# Altium footprint library 排针-排母.PcbLib: 118 footprints (part 6 of 8)
Each footprint in its own frame and in the unit in brackets; x right, y up, seen from the top. Pads: shape width x height; smd on the part's side, far side on the other; paste and mask are expansions set on the pad; w line width, h text height; cw(c..) or ccw(c..) is an arc to the next point about the centre after c.
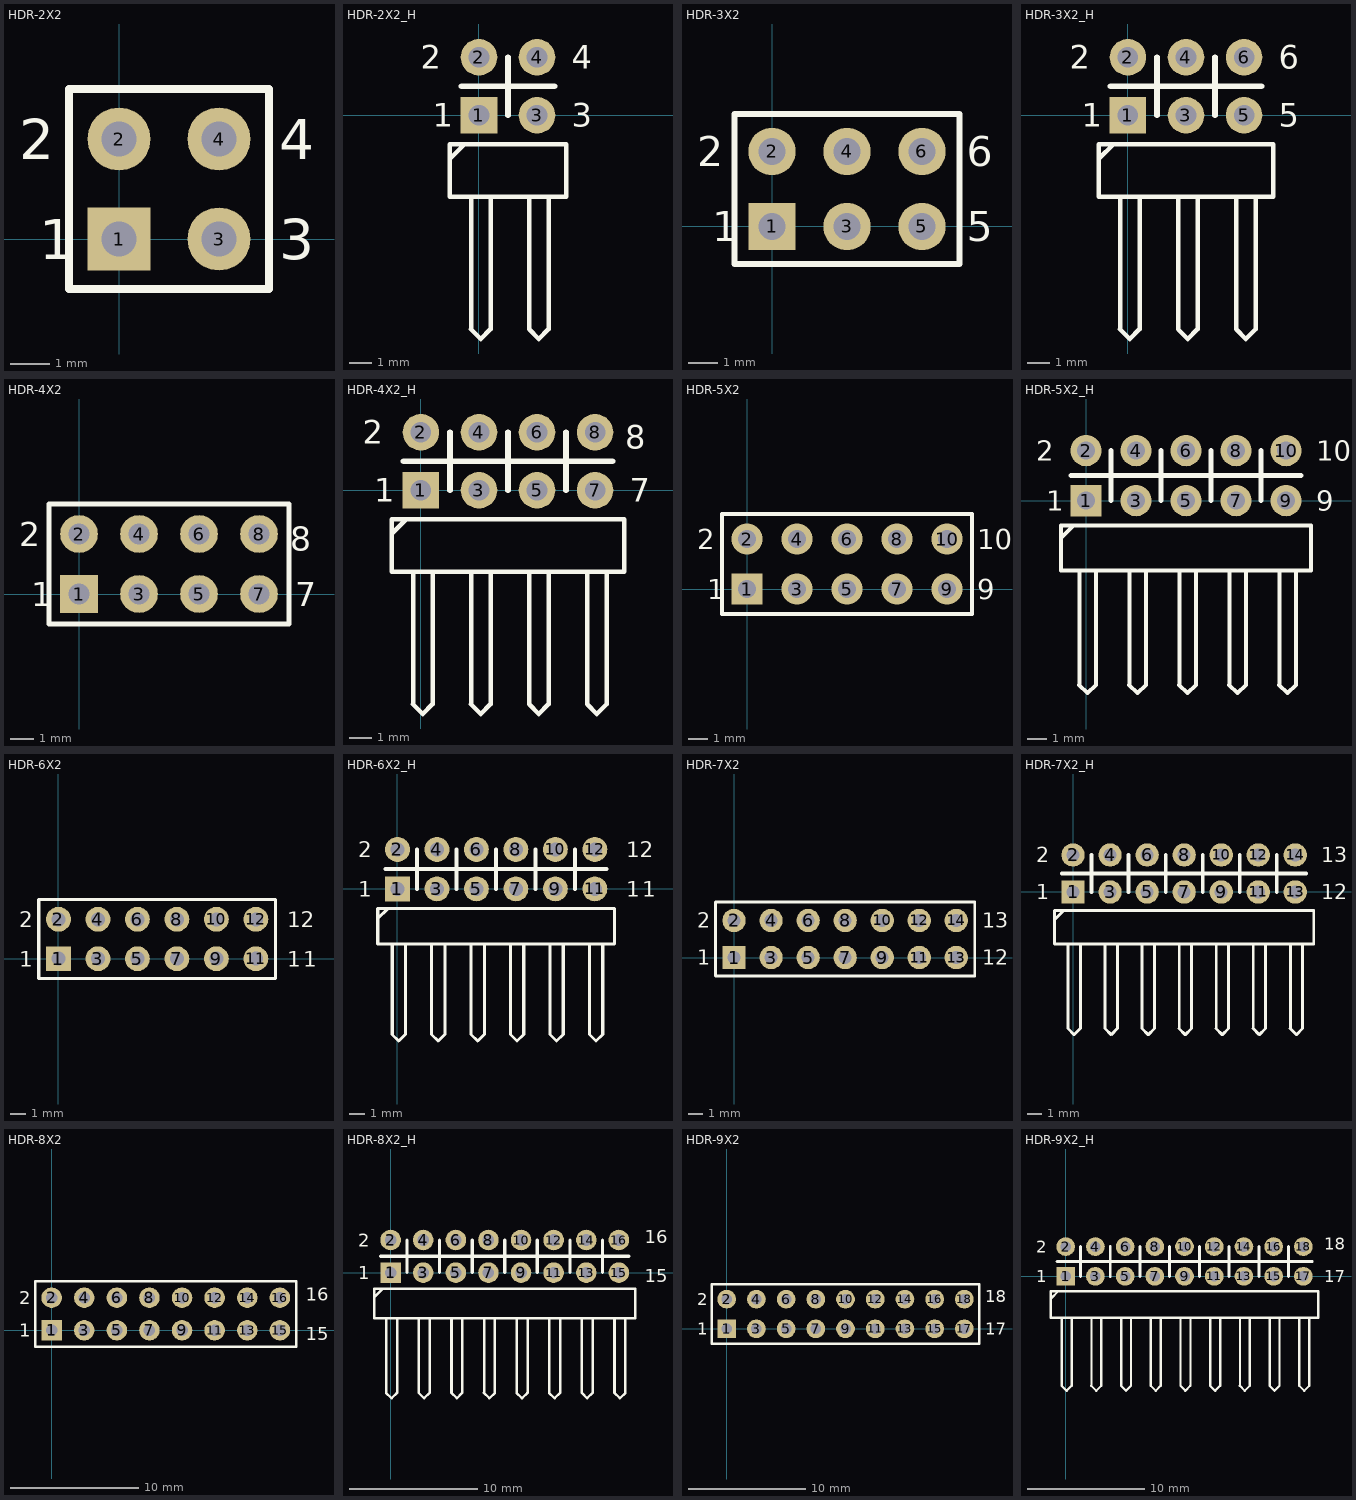
[diagram p5: the footprints below, top view; thin cyan lines are the x and y axes]

## HDR-2X2 [mm] "双排排针，2x2脚"
pads (4):
  rect 1.6x1.6 hole 0.9: 1(0,0)
  round 1.6 hole 0.9: 2(0,2.54) 3(2.54,0) 4(2.54,2.54)
Top Overlay:
  lines w0.2: -1.27,-1.27 3.81,-1.27 3.81,3.81 -1.27,3.81 -1.27,-1.27
  text "3" at 4.064,-0.508 h1.02
  text "4" at 4.064,2.032 h1.02
  text "2" at -2.54,2.032 h1.02
  text "1" at -2.032,-0.508 h1.02
3D body: height 8.5, standoff -3, extent 1.27,-1.27 3.81,3.81
3D body: height 8.5, standoff -3, extent -1.27,-1.27 1.27,3.81

## HDR-2X2_H [mm] "双排弯脚排针，2x2脚"
pads (4):
  rect 1.6x1.6 hole 0.9: 1(0,0)
  round 1.6 hole 0.9: 2(0,2.54) 3(2.54,0) 4(2.54,2.54)
Top Overlay:
  lines w0.2: -1.27,-1.905 -0.635,-1.27 ; -0.348,-9.364 0.075,-9.787 0.499,-9.364 0.508,-9.355 0.508,-3.556 ; -0.339,-9.364 -0.339,-3.556 ; 2.192,-9.364 2.615,-9.787 3.039,-9.364 ; 2.201,-9.364 2.201,-3.556 ; 3.048,-9.364 3.048,-3.556 ; -1.27,-3.556 3.81,-3.556 3.81,-1.27 -1.27,-1.27 -1.27,-3.556
  lines w0.254: -0.762,1.27 3.302,1.27 ; 1.27,0 1.27,2.54
  text "1" at -2.032,-0.508 h1.02
  text "2" at -2.54,2.032 h1.02
  text "4" at 4.064,2.032 h1.02
  text "3" at 4.064,-0.508 h1.02
Bottom Overlay:
  lines w0.254: -0.762,1.27 3.302,1.27 ; 1.27,0 1.27,2.54
3D body: height 5.1, standoff -3, extent 1.27,-9.96 3.81,2.89
3D body: height 5.1, standoff -3, extent -1.27,-9.96 1.27,2.89

## HDR-3X2 [mm] "双排排针，3x2脚"
pads (6):
  rect 1.6x1.6 hole 0.9: 1(0,0)
  round 1.6 hole 0.9: 2(0,2.54) 3(2.54,0) 4(2.54,2.54) 5(5.08,0) 6(5.08,2.54)
Top Overlay:
  lines w0.2: 1.482,-1.27 6.35,-1.27 ; 6.35,-1.27 -1.27,-1.27 -1.27,3.81 6.35,3.81 6.35,-1.27
  text "1" at -2.032,-0.508 h1.02
  text "2" at -2.54,2.032 h1.02
  text "5" at 6.604,-0.508 h1.02
  text "6" at 6.604,2.032 h1.02
3D body: height 8.5, standoff -3, extent 1.27,-1.27 3.81,3.81
3D body: height 8.5, standoff -3, extent -1.27,-1.27 1.27,3.81
3D body: height 8.5, standoff -3, extent 3.81,-1.27 6.35,3.81

## HDR-3X2_H [mm] "双排弯脚排针，3x2脚"
pads (6):
  rect 1.6x1.6 hole 0.9: 1(0,0)
  round 1.6 hole 0.9: 2(0,2.54) 3(2.54,0) 4(2.54,2.54) 5(5.08,0) 6(5.08,2.54)
Top Overlay:
  lines w0.2: -1.27,-1.905 -0.635,-1.27 ; -0.348,-9.364 0.075,-9.787 0.499,-9.364 0.508,-9.355 0.508,-3.556 ; -0.339,-9.364 -0.339,-3.556 ; 2.192,-9.364 2.615,-9.787 3.039,-9.364 ; 2.201,-9.364 2.201,-3.556 ; 3.048,-9.364 3.048,-3.556 ; 4.732,-9.364 5.155,-9.787 5.579,-9.364 ; 4.741,-9.364 4.741,-3.556 ; 5.588,-9.364 5.588,-3.556 ; -1.27,-3.556 -1.27,-1.27 6.35,-1.27 6.35,-3.556 -1.27,-3.556
  lines w0.254: -0.762,1.27 5.842,1.27 ; 1.27,0 1.27,2.54 ; 3.81,0 3.81,2.54
  text "1" at -2.032,-0.508 h1.02
  text "2" at -2.54,2.032 h1.02
  text "5" at 6.604,-0.508 h1.02
  text "6" at 6.604,2.032 h1.02
Bottom Overlay:
  lines w0.254: -0.762,1.27 5.842,1.27 ; 1.27,0 1.27,2.54 ; 3.81,0 3.81,2.54
3D body: height 5.1, standoff -3, extent 3.81,-9.96 6.35,2.89
3D body: height 5.1, standoff -3, extent -1.27,-9.96 1.27,2.89
3D body: height 5.1, standoff -3, extent 1.27,-9.96 3.81,2.89

## HDR-4X2 [mm] "双排排针，4x2脚"
pads (8):
  rect 1.6x1.6 hole 0.9: 1(0,0)
  round 1.6 hole 0.9: 2(0,2.54) 3(2.54,0) 4(2.54,2.54) 5(5.08,0) 6(5.08,2.54) 7(7.62,0) 8(7.62,2.54)
Top Overlay:
  lines w0.2: 1.482,-1.27 8.89,-1.27 8.89,3.81 -1.27,3.81 -1.27,-1.27 6.35,-1.27
  text "7" at 9.144,-0.508 h1.02
  text "8" at 8.941,1.829 h1.02
  text "2" at -2.54,2.032 h1.02
  text "1" at -2.032,-0.508 h1.02
3D body: height 8.5, standoff -3, extent 3.81,-1.27 6.35,3.81
3D body: height 8.5, standoff -3, extent 6.35,-1.27 8.89,3.81
3D body: height 8.5, standoff -3, extent -1.27,-1.27 1.27,3.81
3D body: height 8.5, standoff -3, extent 1.27,-1.27 3.81,3.81

## HDR-4X2_H [mm] "双排弯脚排针，4x2脚"
pads (8):
  rect 1.6x1.6 hole 0.9: 1(0,0)
  round 1.6 hole 0.9: 2(0,2.54) 3(2.54,0) 4(2.54,2.54) 5(5.08,0) 6(5.08,2.54) 7(7.62,0) 8(7.62,2.54)
Top Overlay:
  lines w0.2: -1.27,-1.905 -0.635,-1.27 ; -0.348,-9.364 0.075,-9.787 0.499,-9.364 0.508,-9.355 0.508,-3.556 ; -0.339,-9.364 -0.339,-3.556 ; 2.192,-9.364 2.615,-9.787 3.039,-9.364 ; 2.201,-9.364 2.201,-3.556 ; 3.048,-9.364 3.048,-3.556 ; 4.732,-9.364 5.155,-9.787 5.579,-9.364 ; 4.741,-9.364 4.741,-3.556 ; 5.588,-9.364 5.588,-3.556 ; 7.272,-9.364 7.695,-9.787 8.119,-9.364 ; 7.281,-9.364 7.281,-3.556 ; 8.128,-9.364 8.128,-3.556 ; -1.27,-3.556 8.89,-3.556 8.89,-1.27 -1.27,-1.27 -1.27,-3.556
  lines w0.254: -0.762,1.27 8.382,1.27 ; 1.27,0 1.27,2.54 ; 3.81,0 3.81,2.54 ; 6.35,0 6.35,2.54
  text "7" at 9.144,-0.508 h1.02
  text "8" at 8.941,1.829 h1.02
  text "2" at -2.54,2.032 h1.02
  text "1" at -2.032,-0.508 h1.02
Bottom Overlay:
  lines w0.254: -0.762,1.27 8.382,1.27 ; 1.27,0 1.27,2.54 ; 3.81,0 3.81,2.54 ; 6.35,0 6.35,2.54
3D body: height 5.1, standoff -3, extent 3.81,-9.96 6.35,2.89
3D body: height 5.1, standoff -3, extent 6.35,-9.96 8.89,2.89
3D body: height 5.1, standoff -3, extent -1.27,-9.96 1.27,2.89
3D body: height 5.1, standoff -3, extent 1.27,-9.96 3.81,2.89

## HDR-5X2 [mm] "双排排针，5x2脚"
pads (10):
  rect 1.6x1.6 hole 0.9: 1(0,0)
  round 1.6 hole 0.9: 2(0,2.54) 3(2.54,0) 4(2.54,2.54) 5(5.08,0) 6(5.08,2.54) 7(7.62,0) 8(7.62,2.54) 9(10.16,0) 10(10.16,2.54)
Top Overlay:
  lines w0.2: -1.27,-1.27 11.43,-1.27 11.43,3.81 -1.27,3.81 -1.27,-1.27
  text "10" at 11.684,2.032 h1.02
  text "9" at 11.684,-0.508 h1.02
  text "1" at -2.032,-0.508 h1.02
  text "2" at -2.54,2.032 h1.02
3D body: height 8.5, standoff -3, extent 8.89,-1.27 11.43,3.81
3D body: height 8.5, standoff -3, extent 1.27,-1.27 3.81,3.81
3D body: height 8.5, standoff -3, extent -1.27,-1.27 1.27,3.81
3D body: height 8.5, standoff -3, extent 6.35,-1.27 8.89,3.81
3D body: height 8.5, standoff -3, extent 3.81,-1.27 6.35,3.81

## HDR-5X2_H [mm] "双排弯脚排针，5x2脚"
pads (10):
  rect 1.6x1.6 hole 0.9: 1(0,0)
  round 1.6 hole 0.9: 2(0,2.54) 3(2.54,0) 4(2.54,2.54) 5(5.08,0) 6(5.08,2.54) 7(7.62,0) 8(7.62,2.54) 9(10.16,0) 10(10.16,2.54)
Top Overlay:
  lines w0.2: -1.27,-1.905 -0.635,-1.27 ; -0.348,-9.364 0.075,-9.787 0.499,-9.364 0.508,-9.355 0.508,-3.556 ; -0.339,-9.364 -0.339,-3.556 ; 2.192,-9.364 2.615,-9.787 3.039,-9.364 ; 2.201,-9.364 2.201,-3.556 ; 3.048,-9.364 3.048,-3.556 ; 4.732,-9.364 5.155,-9.787 5.579,-9.364 ; 4.741,-9.364 4.741,-3.556 ; 5.588,-9.364 5.588,-3.556 ; 7.272,-9.364 7.695,-9.787 8.119,-9.364 ; 7.281,-9.364 7.281,-3.556 ; 8.128,-9.364 8.128,-3.556 ; 9.812,-9.364 10.235,-9.787 10.659,-9.364 ; 9.821,-9.364 9.821,-3.556 ; 10.668,-9.364 10.668,-3.556 ; -1.27,-3.556 11.43,-3.556 11.43,-1.27 -1.27,-1.27 -1.27,-3.556
  lines w0.254: -0.762,1.27 10.922,1.27 ; 1.27,0 1.27,2.54 ; 3.81,0 3.81,2.54 ; 6.35,0 6.35,2.54 ; 8.89,0 8.89,2.54
  text "2" at -2.54,2.032 h1.02
  text "1" at -2.032,-0.508 h1.02
  text "9" at 11.684,-0.508 h1.02
  text "10" at 11.684,2.032 h1.02
Bottom Overlay:
  lines w0.254: -0.762,1.27 10.922,1.27 ; 1.27,0 1.27,2.54 ; 3.81,0 3.81,2.54 ; 6.35,0 6.35,2.54 ; 8.89,0 8.89,2.54
3D body: height 5.1, standoff -3, extent 8.89,-9.96 11.43,2.89
3D body: height 5.1, standoff -3, extent 3.81,-9.96 6.35,2.89
3D body: height 5.1, standoff -3, extent 6.35,-9.96 8.89,2.89
3D body: height 5.1, standoff -3, extent -1.27,-9.96 1.27,2.89
3D body: height 5.1, standoff -3, extent 1.27,-9.96 3.81,2.89

## HDR-6X2 [mm] "双排排针，6x2脚"
pads (12):
  rect 1.6x1.6 hole 0.9: 1(0,0)
  round 1.6 hole 0.9: 2(0,2.54) 3(2.54,0) 4(2.54,2.54) 5(5.08,0) 6(5.08,2.54) 7(7.62,0) 8(7.62,2.54) 9(10.16,0) 10(10.16,2.54) 11(12.7,0) 12(12.7,2.54)
Top Overlay:
  lines w0.2: -1.27,-1.27 13.97,-1.27 13.97,3.81 -1.27,3.81 -1.27,-1.27
  text "12" at 14.732,2.032 h1.02
  text "1" at 15.748,-0.508 h1.02
  text "1" at 14.732,-0.508 h1.02
  text "1" at -2.54,-0.508 h1.02
  text "2" at -2.54,2.032 h1.02
3D body: height 8.5, standoff -3, extent 8.89,-1.27 11.43,3.81
3D body: height 8.5, standoff -3, extent 1.27,-1.27 3.81,3.81
3D body: height 8.5, standoff -3, extent -1.27,-1.27 1.27,3.81
3D body: height 8.5, standoff -3, extent 6.35,-1.27 8.89,3.81
3D body: height 8.5, standoff -3, extent 3.81,-1.27 6.35,3.81
3D body: height 8.5, standoff -3, extent 11.43,-1.27 13.97,3.81

## HDR-6X2_H [mm] "双排弯脚排针，6x2脚"
pads (12):
  rect 1.6x1.6 hole 0.9: 1(0,0)
  round 1.6 hole 0.9: 2(0,2.54) 3(2.54,0) 4(2.54,2.54) 5(5.08,0) 6(5.08,2.54) 7(7.62,0) 8(7.62,2.54) 9(10.16,0) 10(10.16,2.54) 11(12.7,0) 12(12.7,2.54)
Top Overlay:
  lines w0.2: -1.27,-1.905 -0.635,-1.27 ; -0.348,-9.364 0.075,-9.787 0.499,-9.364 0.508,-9.355 0.508,-3.556 ; -0.339,-9.364 -0.339,-3.556 ; 2.192,-9.364 2.615,-9.787 3.039,-9.364 ; 2.201,-9.364 2.201,-3.556 ; 3.048,-9.364 3.048,-3.556 ; 4.732,-9.364 5.155,-9.787 5.579,-9.364 ; 4.741,-9.364 4.741,-3.556 ; 5.588,-9.364 5.588,-3.556 ; 7.272,-9.364 7.695,-9.787 8.119,-9.364 ; 7.281,-9.364 7.281,-3.556 ; 8.128,-9.364 8.128,-3.556 ; 9.812,-9.364 10.235,-9.787 10.659,-9.364 ; 9.821,-9.364 9.821,-3.556 ; 10.668,-9.364 10.668,-3.556 ; 12.352,-9.364 12.775,-9.787 13.199,-9.364 ; 12.361,-9.364 12.361,-3.556 ; 13.208,-9.364 13.208,-3.556 ; -1.27,-3.556 13.97,-3.556 13.97,-1.27 -1.27,-1.27 -1.27,-3.556
  lines w0.254: -0.762,1.27 13.462,1.27 ; 1.27,0 1.27,2.54 ; 3.81,0 3.81,2.54 ; 6.35,0 6.35,2.54 ; 8.89,0 8.89,2.54 ; 11.43,0 11.43,2.54
  text "12" at 14.732,2.032 h1.02
  text "1" at 15.748,-0.508 h1.02
  text "1" at 14.732,-0.508 h1.02
  text "1" at -2.54,-0.508 h1.02
  text "2" at -2.54,2.032 h1.02
Bottom Overlay:
  lines w0.254: -0.762,1.27 13.462,1.27 ; 1.27,0 1.27,2.54 ; 3.81,0 3.81,2.54 ; 6.35,0 6.35,2.54 ; 8.89,0 8.89,2.54 ; 11.43,0 11.43,2.54
3D body: height 5.1, standoff -3, extent 8.89,-9.96 11.43,2.89
3D body: height 5.1, standoff -3, extent 3.81,-9.96 6.35,2.89
3D body: height 5.1, standoff -3, extent 6.35,-9.96 8.89,2.89
3D body: height 5.1, standoff -3, extent -1.27,-9.96 1.27,2.89
3D body: height 5.1, standoff -3, extent 1.27,-9.96 3.81,2.89
3D body: height 5.1, standoff -3, extent 11.43,-9.96 13.97,2.89

## HDR-7X2 [mm] "双排排针，7x2脚"
pads (14):
  rect 1.6x1.6 hole 0.9: 1(0,0)
  round 1.6 hole 0.9: 2(0,2.54) 3(2.54,0) 4(2.54,2.54) 5(5.08,0) 6(5.08,2.54) 7(7.62,0) 8(7.62,2.54) 9(10.16,0) 10(10.16,2.54) 11(12.7,0) 12(12.7,2.54) 13(15.24,0) 14(15.24,2.54)
Top Overlay:
  lines w0.2: -1.27,-1.27 16.51,-1.27 16.51,3.81 -1.27,3.81 -1.27,-1.27
  text "12" at 17.018,-0.508 h1.02
  text "13" at 17.018,2.032 h1.02
  text "1" at -2.54,-0.508 h1.02
  text "2" at -2.54,2.032 h1.02
3D body: height 8.5, standoff -3, extent 8.89,-1.27 11.43,3.81
3D body: height 8.5, standoff -3, extent 1.27,-1.27 3.81,3.81
3D body: height 8.5, standoff -3, extent -1.27,-1.27 1.27,3.81
3D body: height 8.5, standoff -3, extent 6.35,-1.27 8.89,3.81
3D body: height 8.5, standoff -3, extent 3.81,-1.27 6.35,3.81
3D body: height 8.5, standoff -3, extent 13.97,-1.27 16.51,3.81
3D body: height 8.5, standoff -3, extent 11.43,-1.27 13.97,3.81

## HDR-7X2_H [mm] "双排弯脚排针，7x2脚"
pads (14):
  rect 1.6x1.6 hole 0.9: 1(0,0)
  round 1.6 hole 0.9: 2(0,2.54) 3(2.54,0) 4(2.54,2.54) 5(5.08,0) 6(5.08,2.54) 7(7.62,0) 8(7.62,2.54) 9(10.16,0) 10(10.16,2.54) 11(12.7,0) 12(12.7,2.54) 13(15.24,0) 14(15.24,2.54)
Top Overlay:
  lines w0.2: -1.27,-1.905 -0.635,-1.27 ; -0.348,-9.364 0.075,-9.787 0.499,-9.364 0.508,-9.355 0.508,-3.556 ; -0.339,-9.364 -0.339,-3.556 ; 2.192,-9.364 2.615,-9.787 3.039,-9.364 ; 2.201,-9.364 2.201,-3.556 ; 3.048,-9.364 3.048,-3.556 ; 4.732,-9.364 5.155,-9.787 5.579,-9.364 ; 4.741,-9.364 4.741,-3.556 ; 5.588,-9.364 5.588,-3.556 ; 7.272,-9.364 7.695,-9.787 8.119,-9.364 ; 7.281,-9.364 7.281,-3.556 ; 8.128,-9.364 8.128,-3.556 ; 9.812,-9.364 10.235,-9.787 10.659,-9.364 ; 9.821,-9.364 9.821,-3.556 ; 10.668,-9.364 10.668,-3.556 ; 12.352,-9.364 12.775,-9.787 13.199,-9.364 ; 12.361,-9.364 12.361,-3.556 ; 13.208,-9.364 13.208,-3.556 ; 14.892,-9.364 15.315,-9.787 15.739,-9.364 ; 14.901,-9.364 14.901,-3.556 ; 15.748,-9.364 15.748,-3.556 ; -1.27,-3.556 16.51,-3.556 16.51,-1.27 -1.27,-1.27 -1.27,-3.556
  lines w0.254: -0.762,1.27 16.002,1.27 ; 1.27,0 1.27,2.54 ; 3.81,0 3.81,2.54 ; 6.35,0 6.35,2.54 ; 8.89,0 8.89,2.54 ; 11.43,0 11.43,2.54 ; 13.97,0 13.97,2.54
  text "12" at 17.018,-0.508 h1.02
  text "13" at 17.018,2.032 h1.02
  text "1" at -2.54,-0.508 h1.02
  text "2" at -2.54,2.032 h1.02
Bottom Overlay:
  lines w0.254: -0.762,1.27 16.002,1.27 ; 1.27,0 1.27,2.54 ; 3.81,0 3.81,2.54 ; 6.35,0 6.35,2.54 ; 8.89,0 8.89,2.54 ; 11.43,0 11.43,2.54 ; 13.97,0 13.97,2.54
3D body: height 5.1, standoff -3, extent 8.89,-9.96 11.43,2.89
3D body: height 5.1, standoff -3, extent 3.81,-9.96 6.35,2.89
3D body: height 5.1, standoff -3, extent 6.35,-9.96 8.89,2.89
3D body: height 5.1, standoff -3, extent -1.27,-9.96 1.27,2.89
3D body: height 5.1, standoff -3, extent 1.27,-9.96 3.81,2.89
3D body: height 5.1, standoff -3, extent 11.43,-9.96 13.97,2.89
3D body: height 5.1, standoff -3, extent 13.97,-9.96 16.51,2.89

## HDR-8X2 [mm] "双排排针，8x2脚"
pads (16):
  rect 1.6x1.6 hole 0.9: 1(0,0)
  round 1.6 hole 0.9: 2(0,2.54) 3(2.54,0) 4(2.54,2.54) 5(5.08,0) 6(5.08,2.54) 7(7.62,0) 8(7.62,2.54) 9(10.16,0) 10(10.16,2.54) 11(12.7,0) 12(12.7,2.54) 13(15.24,0) 14(15.24,2.54) 15(17.78,0) 16(17.78,2.54)
Top Overlay:
  lines w0.2: -1.27,-1.27 -1.27,3.81 19.05,3.81 19.05,-1.27 -1.27,-1.27
  text "2" at -2.54,2.032 h1.02
  text "1" at -2.54,-0.508 h1.02
  text "16" at 19.812,2.286 h1.02
  text "15" at 19.812,-0.762 h1.02
3D body: height 8.5, standoff -3, extent 8.89,-1.27 11.43,3.81
3D body: height 8.5, standoff -3, extent 1.27,-1.27 3.81,3.81
3D body: height 8.5, standoff -3, extent -1.27,-1.27 1.27,3.81
3D body: height 8.5, standoff -3, extent 6.35,-1.27 8.89,3.81
3D body: height 8.5, standoff -3, extent 3.81,-1.27 6.35,3.81
3D body: height 8.5, standoff -3, extent 13.97,-1.27 16.51,3.81
3D body: height 8.5, standoff -3, extent 11.43,-1.27 13.97,3.81
3D body: height 8.5, standoff -3, extent 16.51,-1.27 19.05,3.81

## HDR-8X2_H [mm] "双排弯脚排针，8x2脚"
pads (16):
  rect 1.6x1.6 hole 0.9: 1(0,0)
  round 1.6 hole 0.9: 2(0,2.54) 3(2.54,0) 4(2.54,2.54) 5(5.08,0) 6(5.08,2.54) 7(7.62,0) 8(7.62,2.54) 9(10.16,0) 10(10.16,2.54) 11(12.7,0) 12(12.7,2.54) 13(15.24,0) 14(15.24,2.54) 15(17.78,0) 16(17.78,2.54)
Top Overlay:
  lines w0.2: -1.27,-1.905 -0.635,-1.27 ; -0.348,-9.364 0.075,-9.787 0.499,-9.364 0.508,-9.355 0.508,-3.556 ; -0.339,-9.364 -0.339,-3.556 ; 2.192,-9.364 2.615,-9.787 3.039,-9.364 ; 2.201,-9.364 2.201,-3.556 ; 3.048,-9.364 3.048,-3.556 ; 4.732,-9.364 5.155,-9.787 5.579,-9.364 ; 4.741,-9.364 4.741,-3.556 ; 5.588,-9.364 5.588,-3.556 ; 7.272,-9.364 7.695,-9.787 8.119,-9.364 ; 7.281,-9.364 7.281,-3.556 ; 8.128,-9.364 8.128,-3.556 ; 9.812,-9.364 10.235,-9.787 10.659,-9.364 ; 9.821,-9.364 9.821,-3.556 ; 10.668,-9.364 10.668,-3.556 ; 12.352,-9.364 12.775,-9.787 13.199,-9.364 ; 12.361,-9.364 12.361,-3.556 ; 13.208,-9.364 13.208,-3.556 ; 14.892,-9.364 15.315,-9.787 15.739,-9.364 ; 14.901,-9.364 14.901,-3.556 ; 15.748,-9.364 15.748,-3.556 ; 17.432,-9.364 17.855,-9.787 18.279,-9.364 ; 17.441,-9.364 17.441,-3.556 ; 18.288,-9.364 18.288,-3.556 ; -1.27,-3.556 -1.27,-1.27 19.05,-1.27 19.05,-3.556 -1.27,-3.556
  lines w0.254: -0.762,1.27 18.542,1.27 ; 1.27,0 1.27,2.54 ; 3.81,0 3.81,2.54 ; 6.35,0 6.35,2.54 ; 8.89,0 8.89,2.54 ; 11.43,0 11.43,2.54 ; 13.97,0 13.97,2.54 ; 16.51,0 16.51,2.54
  text "2" at -2.54,2.032 h1.02
  text "1" at -2.54,-0.508 h1.02
  text "16" at 19.812,2.286 h1.02
  text "15" at 19.812,-0.762 h1.02
Bottom Overlay:
  lines w0.254: -0.762,1.27 18.542,1.27 ; 1.27,0 1.27,2.54 ; 3.81,0 3.81,2.54 ; 6.35,0 6.35,2.54 ; 8.89,0 8.89,2.54 ; 11.43,0 11.43,2.54 ; 13.97,0 13.97,2.54 ; 16.51,0 16.51,2.54
3D body: height 5.1, standoff -3, extent 13.97,-9.96 16.51,2.89
3D body: height 5.1, standoff -3, extent 11.43,-9.96 13.97,2.89
3D body: height 5.1, standoff -3, extent 16.51,-9.96 19.05,2.89
3D body: height 5.1, standoff -3, extent 1.27,-9.96 3.81,2.89
3D body: height 5.1, standoff -3, extent -1.27,-9.96 1.27,2.89
3D body: height 5.1, standoff -3, extent 6.35,-9.96 8.89,2.89
3D body: height 5.1, standoff -3, extent 3.81,-9.96 6.35,2.89
3D body: height 5.1, standoff -3, extent 8.89,-9.96 11.43,2.89

## HDR-9X2 [mm] "双排排针，9x2脚"
pads (18):
  rect 1.6x1.6 hole 0.9: 1(0,0)
  round 1.6 hole 0.9: 2(0,2.54) 3(2.54,0) 4(2.54,2.54) 5(5.08,0) 6(5.08,2.54) 7(7.62,0) 8(7.62,2.54) 9(10.16,0) 10(10.16,2.54) 11(12.7,0) 12(12.7,2.54) 13(15.24,0) 14(15.24,2.54) 15(17.78,0) 16(17.78,2.54) 17(20.32,0) 18(20.32,2.54)
Top Overlay:
  lines w0.2: -1.27,-1.27 21.59,-1.27 21.59,3.81 -1.27,3.81 -1.27,-1.27
  text "17" at 22.098,-0.508 h1.02
  text "18" at 22.098,2.286 h1.02
  text "1" at -2.54,-0.508 h1.02
  text "2" at -2.54,2.032 h1.02
3D body: height 8.5, standoff -3, extent 16.51,-1.27 19.05,3.81
3D body: height 8.5, standoff -3, extent 19.05,-1.27 21.59,3.81
3D body: height 8.5, standoff -3, extent 11.43,-1.27 13.97,3.81
3D body: height 8.5, standoff -3, extent 13.97,-1.27 16.51,3.81
3D body: height 8.5, standoff -3, extent 3.81,-1.27 6.35,3.81
3D body: height 8.5, standoff -3, extent 6.35,-1.27 8.89,3.81
3D body: height 8.5, standoff -3, extent -1.27,-1.27 1.27,3.81
3D body: height 8.5, standoff -3, extent 1.27,-1.27 3.81,3.81
3D body: height 8.5, standoff -3, extent 8.89,-1.27 11.43,3.81

## HDR-9X2_H [mm] "双排弯脚排针，9x2脚"
pads (18):
  rect 1.6x1.6 hole 0.9: 1(0,0)
  round 1.6 hole 0.9: 2(0,2.54) 3(2.54,0) 4(2.54,2.54) 5(5.08,0) 6(5.08,2.54) 7(7.62,0) 8(7.62,2.54) 9(10.16,0) 10(10.16,2.54) 11(12.7,0) 12(12.7,2.54) 13(15.24,0) 14(15.24,2.54) 15(17.78,0) 16(17.78,2.54) 17(20.32,0) 18(20.32,2.54)
Top Overlay:
  lines w0.2: -1.27,-1.905 -0.635,-1.27 ; -0.348,-9.364 0.075,-9.787 0.499,-9.364 0.508,-9.355 0.508,-3.556 ; -0.339,-9.364 -0.339,-3.556 ; 2.192,-9.364 2.615,-9.787 3.039,-9.364 ; 2.201,-9.364 2.201,-3.556 ; 3.048,-9.364 3.048,-3.556 ; 4.732,-9.364 5.155,-9.787 5.579,-9.364 ; 4.741,-9.364 4.741,-3.556 ; 5.588,-9.364 5.588,-3.556 ; 7.272,-9.364 7.695,-9.787 8.119,-9.364 ; 7.281,-9.364 7.281,-3.556 ; 8.128,-9.364 8.128,-3.556 ; 9.812,-9.364 10.235,-9.787 10.659,-9.364 ; 9.821,-9.364 9.821,-3.556 ; 10.668,-9.364 10.668,-3.556 ; 12.352,-9.364 12.775,-9.787 13.199,-9.364 ; 12.361,-9.364 12.361,-3.556 ; 13.208,-9.364 13.208,-3.556 ; 14.892,-9.364 15.315,-9.787 15.739,-9.364 ; 14.901,-9.364 14.901,-3.556 ; 15.748,-9.364 15.748,-3.556 ; 17.432,-9.364 17.855,-9.787 18.279,-9.364 ; 17.441,-9.364 17.441,-3.556 ; 18.288,-9.364 18.288,-3.556 ; 19.972,-9.364 20.395,-9.787 20.819,-9.364 ; 19.981,-9.364 19.981,-3.556 ; 20.828,-9.364 20.828,-3.556 ; -1.27,-3.556 -1.27,-1.27 21.59,-1.27 21.59,-3.556 -1.27,-3.556
  lines w0.254: -0.762,1.27 21.082,1.27 ; 1.27,0 1.27,2.54 ; 3.81,0 3.81,2.54 ; 6.35,0 6.35,2.54 ; 8.89,0 8.89,2.54 ; 11.43,0 11.43,2.54 ; 13.97,0 13.97,2.54 ; 16.51,0 16.51,2.54 ; 19.05,0 19.05,2.54
  text "2" at -2.54,2.032 h1.02
  text "1" at -2.54,-0.508 h1.02
  text "18" at 22.098,2.286 h1.02
  text "17" at 22.098,-0.508 h1.02
Bottom Overlay:
  lines w0.254: -0.762,1.27 21.082,1.27 ; 1.27,0 1.27,2.54 ; 3.81,0 3.81,2.54 ; 6.35,0 6.35,2.54 ; 8.89,0 8.89,2.54 ; 11.43,0 11.43,2.54 ; 13.97,0 13.97,2.54 ; 16.51,0 16.51,2.54 ; 19.05,0 19.05,2.54
3D body: height 5.1, standoff -3, extent 8.89,-9.96 11.43,2.89
3D body: height 5.1, standoff -3, extent 3.81,-9.96 6.35,2.89
3D body: height 5.1, standoff -3, extent 6.35,-9.96 8.89,2.89
3D body: height 5.1, standoff -3, extent -1.27,-9.96 1.27,2.89
3D body: height 5.1, standoff -3, extent 1.27,-9.96 3.81,2.89
3D body: height 5.1, standoff -3, extent 16.51,-9.96 19.05,2.89
3D body: height 5.1, standoff -3, extent 19.05,-9.96 21.59,2.89
3D body: height 5.1, standoff -3, extent 11.43,-9.96 13.97,2.89
3D body: height 5.1, standoff -3, extent 13.97,-9.96 16.51,2.89